# Altium footprint library PCB1.PcbLib: 42 footprints (part 2 of 3)
Each footprint in its own frame and in the unit in brackets; x right, y up, seen from the top. Pads: shape width x height; smd on the part's side, far side on the other; paste and mask are expansions set on the pad; w line width, h text height; cw(c..) or ccw(c..) is an arc to the next point about the centre after c.
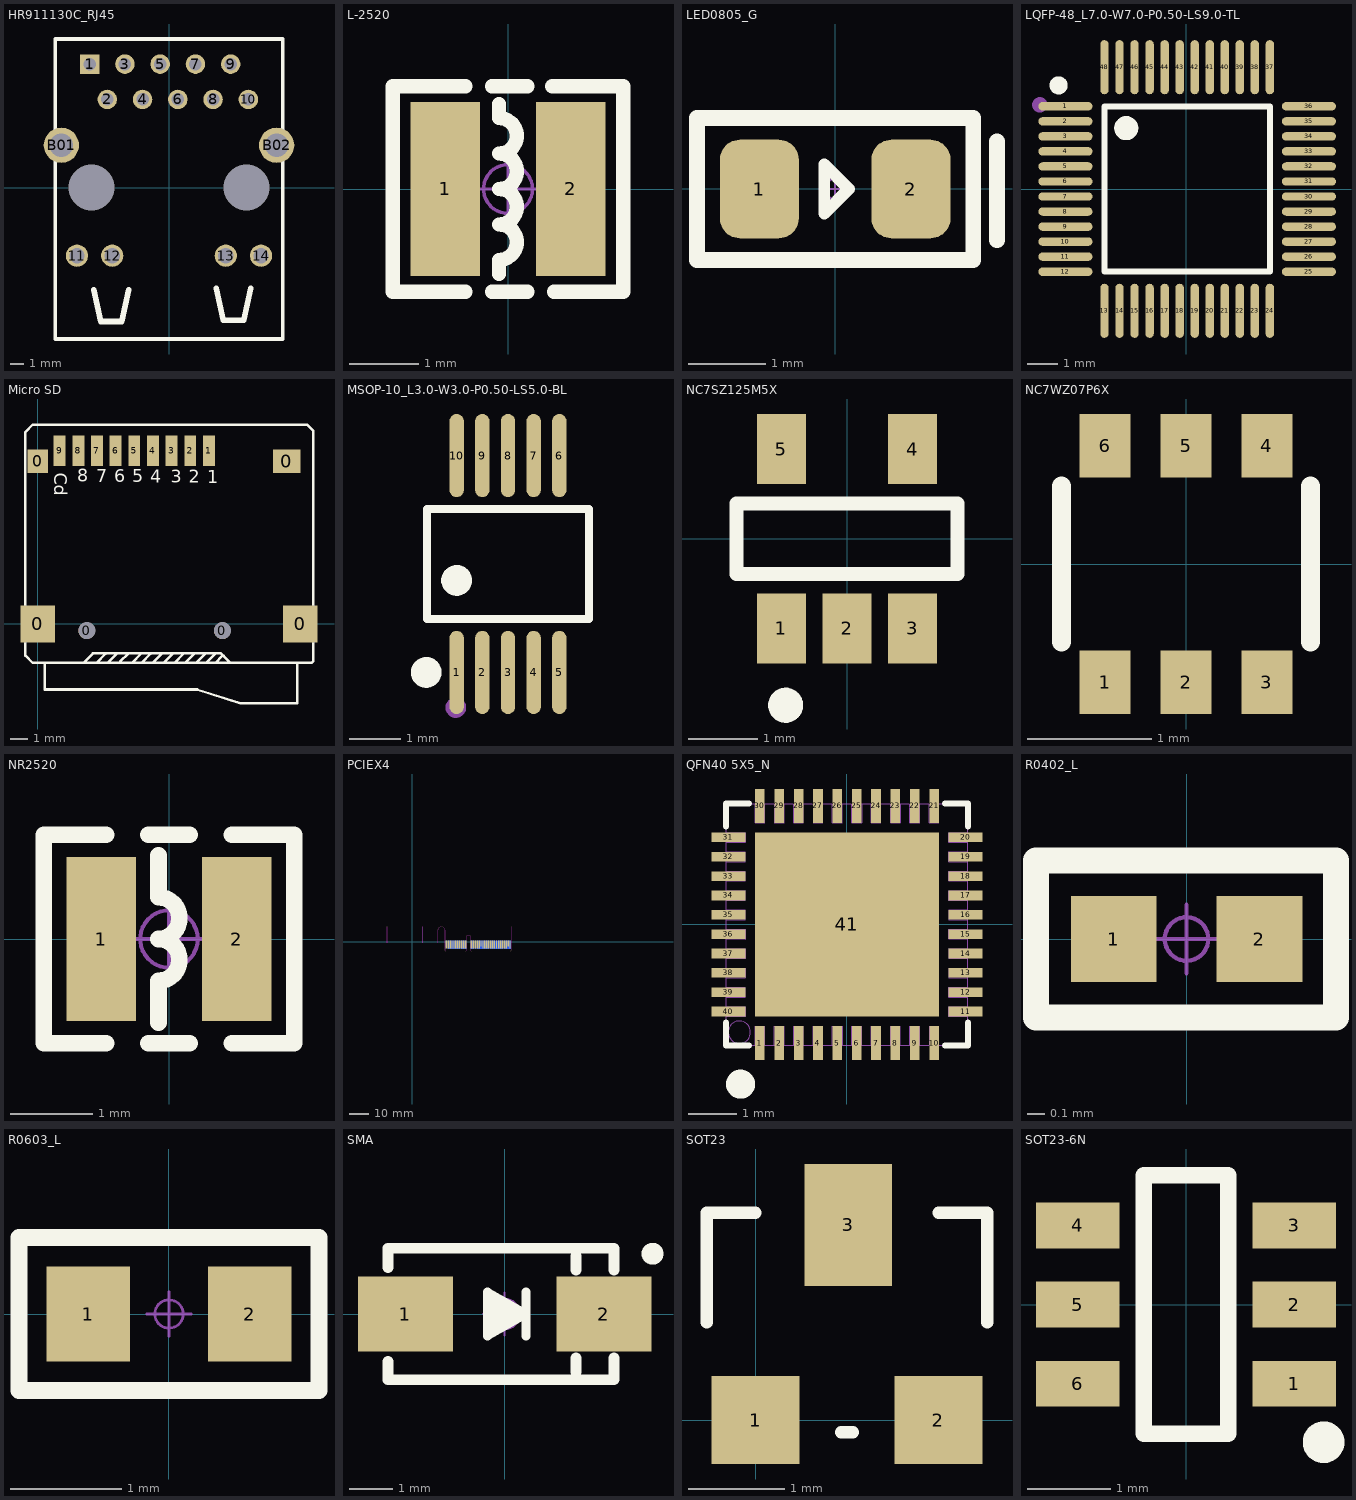
[diagram p1: the footprints below, top view; thin cyan lines are the x and y axes]

## HR911130C_RJ45 [mm]
pads (18):
  rect 1.4x1.4 hole 0.9: 1(-5.715,8.89)
  round 1.4 hole 0.9: 2(-4.445,6.35) 3(-3.175,8.89) 4(-1.905,6.35) 5(-0.635,8.89) 6(0.635,6.35) 7(1.905,8.89) 8(3.175,6.35) 9(4.445,8.89) 10(5.715,6.35)
  round 1.6 hole 1.1: 11(-6.625,-4.9) 12(-4.09,-4.9) 13(4.09,-4.9) 14(6.625,-4.9)
  round 2.54 hole 1.7: B01(-7.75,3.05) B02(7.75,3.05)
  round 0 hole 3.3 unplated: BO3(-5.57,0) BO4(5.57,0)
Top Overlay:
  lines w0.254: -8.2,-10.9 -8.2,10.7 8.2,10.7 8.2,-10.9 -8.2,-10.9
  lines w0.4: -5.404,-7.338 -4.904,-9.638 -3.404,-9.638 -2.904,-7.338 ; 3.396,-7.238 3.896,-9.538 5.396,-9.538 5.896,-7.238

## L-2520 [mm]
pads (2):
  rect 1x2.5 smd: 1(-0.9,0) 2(0.9,0)
Top Overlay:
  lines w0.203: -0.61,-1.473 -1.651,-1.473 -1.651,1.473 -0.61,1.473 ; -0.229,-1.473 0.279,-1.473 ; -0.229,1.473 0.279,1.473 ; -0.127,-1.219 -0.127,-1.016 ccw(c-0.127,-0.762) -0.127,-0.508 ccw(c-0.127,-0.254) -0.127,0 ccw(c-0.127,0.254) -0.127,0.508 ccw(c-0.127,0.762) -0.127,1.016 -0.127,1.219 ; 0.635,1.473 1.651,1.473 1.651,-1.473 0.66,-1.473
Mechanical 15:
  circle w0.05: c0,0 r0.35
  lines w0.05: -0.5,0 0.5,0 ; 0,-0.5 0,0.5

## LED0805_G [mil] "绿色0805LED            联系卖家 免费查找封装"
pads (2):
  rrect50% 40x50 smd: 1(-38.4,0) 2(38.4,0)
Top Overlay:
  lines w6: -5.5,-12.5 -5.5,12.5 7,0 -5.5,-12.5
  lines w8: 82,-26 82,24 ; -70,-36 70,-36 70,36 -70,36 -70,-36
Mechanical 15:
  circle w1: c0,0 r5
  lines w1: -7.87,0 7.87,0 ; 0,-7.87 0,7.87
3D body "LED 0805玻璃罩.STEP": height 31.69, standoff 12.01, extent -29.53,-24.6 29.53,24.6
3D body "LED_0805-G.STEP": height 26.34, standoff -0.04, extent -39.37,-24.65 39.37,24.64

## LQFP-48_L7.0-W7.0-P0.50-LS9.0-TL [mm]
pads (48):
  oval 1.8x0.28 smd paste+0 mask+0.051: 1(-4.012,2.75) 2(-4.012,2.25) 3(-4.012,1.75) 4(-4.012,1.25) 5(-4.012,0.75) 6(-4.012,0.25) 7(-4.012,-0.25) 8(-4.012,-0.75) 9(-4.012,-1.25) 10(-4.012,-1.75) 11(-4.012,-2.25) 12(-4.012,-2.75) 25(4.088,-2.75) 26(4.088,-2.25) 27(4.088,-1.75) 28(4.088,-1.25) 29(4.088,-0.75) 30(4.088,-0.25) 31(4.088,0.25) 32(4.088,0.75) 33(4.088,1.25) 34(4.088,1.75) 35(4.088,2.25) 36(4.088,2.75)
  oval 0.28x1.8 smd paste+0 mask+0.051: 13(-2.712,-4.05) 14(-2.211,-4.05) 15(-1.712,-4.05) 16(-1.211,-4.05) 17(-0.712,-4.05) 18(-0.211,-4.05) 19(0.288,-4.05) 20(0.789,-4.05) 21(1.288,-4.05) 22(1.789,-4.05) 23(2.288,-4.05) 24(2.789,-4.05) 37(2.789,4.05) 38(2.288,4.05) 39(1.789,4.05) 40(1.288,4.05) 41(0.789,4.05) 42(0.288,4.05) 43(-0.211,4.05) 44(-0.712,4.05) 45(-1.211,4.05) 46(-1.712,4.05) 47(-2.211,4.05) 48(-2.712,4.05)
Top Overlay:
  lines w0.2: -2.712,-2.75 2.788,-2.75 2.788,2.75 -2.712,2.75 -2.712,-2.75
  lines w0.3: -4.087,3.447 cw(c-4.237,3.448) -4.087,3.449
  lines w0.4: -1.788,2.022 cw(c-1.988,2.023) -1.788,2.024
Mechanical 15:
  circle w0.254: c-4.861,2.8 r0.127

## Micro SD [mm]
pads (15):
  rect 2.032x2.2 smd: 0(0,0) 0(15.5,0)
  rect 1.2x1.4 smd: 0(0,9.6)
  round 1 hole 1 unplated: 0(2.9,-0.4) 0(10.9,-0.4)
  rect 1.6x1.4 smd: 0(14.7,9.6)
  rect 0.7x1.8 smd: 1(10.1,10.227) 2(9,10.227) 3(7.9,10.227) 4(6.8,10.227) 5(5.7,10.227) 6(4.6,10.227) 7(3.5,10.227) 8(2.4,10.227) 9(1.3,10.227)
Top Overlay:
  lines w0.152: 0.423,-2.295 0.423,-3.87 9.414,-3.87 ; 3.471,-2.295 4.004,-1.762 4.004,-1.736 ; 4.131,-2.295 4.639,-1.787 4.639,-1.736 ; 4.868,-2.295 4.868,-2.219 5.35,-1.736 ; 5.553,-2.295 6.112,-1.736 6.138,-1.736 ; 6.138,-2.295 6.671,-1.762 6.671,-1.736 ; 6.773,-2.295 7.331,-1.736 7.433,-1.736 ; 7.433,-2.295 7.992,-1.736 8.017,-1.736 ; 8.068,-2.295 8.601,-1.762 8.601,-1.736 ; 8.703,-2.295 9.262,-1.736 9.389,-1.736 ; 9.338,-2.295 9.897,-1.736 9.922,-1.736 ; 9.389,-3.87 11.954,-4.683 15.307,-4.683 15.307,-2.321 ; 9.922,-2.295 10.481,-1.736 ; 10.481,-2.295 10.887,-1.889 10.964,-1.889 ; -0.289,-2.295 2.709,-2.295 3.267,-1.736 10.811,-1.736 11.37,-2.295 16.171,-2.295 ; -0.289,-2.295 16.171,-2.295 ; -0.289,-2.295 -0.72,-1.863 -0.72,11.319 -0.289,11.751 15.891,11.751 16.272,11.37 16.272,-2.194 16.171,-2.295
  text "1" at 9.998,8.297 h0.76
  text "2" at 8.906,8.322 h0.76
  text "3" at 7.839,8.322 h0.76
  text "4" at 6.646,8.322 h0.76
  text "5" at 5.579,8.347 h0.76
  text "6" at 4.512,8.347 h0.76
  text "7" at 3.445,8.347 h0.76
  text "8" at 2.328,8.373 h0.76
  text "Cd" at 0.981,8.932 h0.76
3D body "sdcard.STEP": height 1.8, standoff -0.7, extent -0.272,-4.625 16.002,10.569

## MSOP-10_L3.0-W3.0-P0.50-LS5.0-BL [mm]
pads (10):
  oval 0.28x1.62 smd paste+0 mask+0.051: 1(456.035,-344.857) 2(456.535,-344.857) 3(457.035,-344.857) 4(457.535,-344.857) 5(458.035,-344.857) 6(458.035,-340.637) 7(457.535,-340.637) 8(457.035,-340.637) 9(456.535,-340.637) 10(456.035,-340.637)
Top Overlay:
  circle w0.3: c456.035,-343.066 r0.15
  circle w0.3: c455.443,-344.857 r0.15
  lines w0.152: 455.459,-343.819 455.459,-341.676 458.611,-341.676 458.611,-343.819 455.459,-343.819
Mechanical 15:
  circle w0.2: c456.019,-345.541 r0.1

## NC7SZ125M5X [mil]
pads (5):
  rect 28x40 smd: 1(-37.4,-51.18) 2(0,-51.18) 3(37.4,-51.18) 4(37.4,51.18) 5(-37.4,51.18)
Top Overlay:
  circle w10: c-35,-95 r5
  lines w8: -63,-20 63,-20 63,20 -63,20 -63,-20

## NC7WZ07P6X [mil]
pads (6):
  rect 16x20 smd: 1(-25.59,-37.4) 2(0,-37.4) 3(25.59,-37.4) 4(25.59,37.4) 5(0,37.4) 6(-25.59,37.4)
Top Overlay:
  lines w6: -39.37,-24.61 -39.37,24.61 ; 39.37,-24.61 39.37,24.61

## NR2520 [mm] "2.5mm*2.0mm*1.0mm(长*宽*高）"
pads (2):
  rect 0.85x2 smd: 1(-0.825,0) 2(0.825,0)
Top Overlay:
  lines w0.203: -0.762,-1.27 -1.524,-1.27 -1.524,1.27 -0.762,1.27 ; -0.254,-1.27 0.254,-1.27 ; -0.254,1.27 0.254,1.27 ; -0.127,-1.016 -0.127,-0.508 ccw(c-0.127,-0.254) -0.127,0 ccw(c-0.127,0.254) -0.127,0.508 -0.127,1.016 ; 0.762,-1.27 1.524,-1.27 1.524,1.27 0.762,1.27
Mechanical 15:
  circle w0.05: c0,0 r0.35
  lines w0.05: -0.5,0 0.5,0 ; 0,-0.5 0,0.5
3D body "NR2520.STEP": height 1.12, standoff 0.02, extent -1.25,-1 1.25,1

## PCIEX4 [mm]
pads (64):
  rect 0.7x3.2 smd far side: A1(17.678,-0.897)
  rect 0.7x4.2 smd far side: A2(18.678,-1.397) A3(19.678,-1.397) A4(20.678,-1.397) A5(21.678,-1.397) A6(22.678,-1.397) A7(23.678,-1.397) A8(24.678,-1.397) A9(25.678,-1.397) A10(26.678,-1.397) A11(27.678,-1.397) A12(30.678,-1.397) A13(31.678,-1.397) A14(32.678,-1.397) A15(33.678,-1.397) A16(34.678,-1.397) A17(35.678,-1.397) A18(36.678,-1.397) A19(37.678,-1.397) A20(38.678,-1.397) A21(39.678,-1.397) A22(40.678,-1.397) A23(41.678,-1.397) A24(42.678,-1.397) A25(43.678,-1.397) A26(44.678,-1.397) A27(45.678,-1.397) A28(46.678,-1.397) A29(47.678,-1.397) A30(48.678,-1.397) A31(49.678,-1.397) A32(50.678,-1.397)
  rect 0.7x4.2 smd: B1(17.678,-1.397) B2(18.678,-1.397) B3(19.678,-1.397) B4(20.678,-1.397) B5(21.678,-1.397) B6(22.678,-1.397) B7(23.678,-1.397) B8(24.678,-1.397) B9(25.678,-1.397) B10(26.678,-1.397) B11(27.678,-1.397) B12(30.678,-1.397) B13(31.678,-1.397) B14(32.678,-1.397) B15(33.678,-1.397) B16(34.678,-1.397) B18(36.678,-1.397) B19(37.678,-1.397) B20(38.678,-1.397) B21(39.678,-1.397) B22(40.678,-1.397) B23(41.678,-1.397) B24(42.678,-1.397) B25(43.678,-1.397) B26(44.678,-1.397) B27(45.678,-1.397) B28(46.678,-1.397) B29(47.678,-1.397) B30(48.678,-1.397) B32(50.678,-1.397)
  rect 0.7x3.2 smd: B17(35.678,-0.897) B31(49.678,-0.897)
Keep-Out Layer:
  drawing of 21 lines, arcs and shapes, not listed

## QFN40 5X5_N [mm]
pads (41):
  rect 0.2x0.7 smd mask+0.05: 1(-1.8,-2.45) 2(-1.4,-2.45) 3(-1,-2.45) 4(-0.6,-2.45) 5(-0.2,-2.45) 6(0.2,-2.45) 7(0.6,-2.45) 8(1,-2.45) 9(1.4,-2.45) 10(1.8,-2.45) 21(1.8,2.45) 22(1.4,2.45) 23(1,2.45) 24(0.6,2.45) 25(0.2,2.45) 26(-0.2,2.45) 27(-0.6,2.45) 28(-1,2.45) 29(-1.4,2.45) 30(-1.8,2.45)
  rect 0.7x0.2 smd mask+0.05: 11(2.45,-1.8) 12(2.45,-1.4) 13(2.45,-1) 14(2.45,-0.6) 15(2.45,-0.2) 16(2.45,0.2) 17(2.45,0.6) 18(2.45,1) 19(2.45,1.4) 20(2.45,1.8) 31(-2.45,1.8) 32(-2.45,1.4) 33(-2.45,1) 34(-2.45,0.6) 35(-2.45,0.2) 36(-2.45,-0.2) 37(-2.45,-0.6) 38(-2.45,-1) 39(-2.45,-1.4) 40(-2.45,-1.8)
  rect 3.8x3.8 smd mask+0.05: 41(0,0)
Top Overlay:
  circle w0.4: c-2.2,-3.3 r0.1
  lines w0.12: -2.5,-2.025 -2.5,-2.5 -2.025,-2.5 ; -2.5,2.025 -2.5,2.5 -2.025,2.5 ; 2.025,-2.5 2.5,-2.5 2.5,-2.025 ; 2.025,2.5 2.5,2.5 2.5,2.025
Mechanical 13:
  circle w0.01: c-2.225,-2.225 r0.23
  lines w0.01: -2.5,-1.9 -2.1,-1.9 -2.1,-1.7 -2.5,-1.7 ; -2.5,-1.5 -2.1,-1.5 -2.1,-1.3 -2.5,-1.3 ; -2.5,-1.1 -2.1,-1.1 -2.1,-0.9 -2.5,-0.9 ; -2.5,-0.7 -2.1,-0.7 -2.1,-0.5 -2.5,-0.5 ; -2.5,-0.3 -2.1,-0.3 -2.1,-0.1 -2.5,-0.1 ; -2.5,0.1 -2.1,0.1 -2.1,0.3 -2.5,0.3 ; -2.5,0.5 -2.1,0.5 -2.1,0.7 -2.5,0.7 ; -2.5,0.9 -2.1,0.9 -2.1,1.1 -2.5,1.1 ; -2.5,1.3 -2.1,1.3 -2.1,1.5 -2.5,1.5 ; -2.5,1.7 -2.1,1.7 -2.1,1.9 -2.5,1.9 ; -1.9,-2.5 -1.9,-2.1 -1.7,-2.1 -1.7,-2.5 ; -1.9,2.5 -1.9,2.1 -1.7,2.1 -1.7,2.5 ; -1.5,-2.5 -1.5,-2.1 -1.3,-2.1 -1.3,-2.5 ; -1.5,2.5 -1.5,2.1 -1.3,2.1 -1.3,2.5 ; -1.1,-2.5 -1.1,-2.1 -0.9,-2.1 -0.9,-2.5 ; -1.1,2.5 -1.1,2.1 -0.9,2.1 -0.9,2.5 ; -0.7,-2.5 -0.7,-2.1 -0.5,-2.1 -0.5,-2.5 ; -0.7,2.5 -0.7,2.1 -0.5,2.1 -0.5,2.5 ; -0.3,-2.5 -0.3,-2.1 -0.1,-2.1 -0.1,-2.5 ; -0.3,2.5 -0.3,2.1 -0.1,2.1 -0.1,2.5 ; 0.1,-2.5 0.1,-2.1 0.3,-2.1 0.3,-2.5 ; 0.1,2.5 0.1,2.1 0.3,2.1 0.3,2.5 ; 0.5,-2.5 0.5,-2.1 0.7,-2.1 0.7,-2.5 ; 0.5,2.5 0.5,2.1 0.7,2.1 0.7,2.5 ; 0.9,-2.5 0.9,-2.1 1.1,-2.1 1.1,-2.5 ; 0.9,2.5 0.9,2.1 1.1,2.1 1.1,2.5 ; 1.3,-2.5 1.3,-2.1 1.5,-2.1 1.5,-2.5 ; 1.3,2.5 1.3,2.1 1.5,2.1 1.5,2.5 ; 1.7,-2.5 1.7,-2.1 1.9,-2.1 1.9,-2.5 ; 1.7,2.5 1.7,2.1 1.9,2.1 1.9,2.5 ; 2.5,-1.9 2.1,-1.9 2.1,-1.7 2.5,-1.7 ; 2.5,-1.5 2.1,-1.5 2.1,-1.3 2.5,-1.3 ; 2.5,-1.1 2.1,-1.1 2.1,-0.9 2.5,-0.9 ; 2.5,-0.7 2.1,-0.7 2.1,-0.5 2.5,-0.5 ; 2.5,-0.3 2.1,-0.3 2.1,-0.1 2.5,-0.1 ; 2.5,0.1 2.1,0.1 2.1,0.3 2.5,0.3 ; 2.5,0.5 2.1,0.5 2.1,0.7 2.5,0.7 ; 2.5,0.9 2.1,0.9 2.1,1.1 2.5,1.1 ; 2.5,1.3 2.1,1.3 2.1,1.5 2.5,1.5 ; 2.5,1.7 2.1,1.7 2.1,1.9 2.5,1.9 ; -2.5,-2.5 -2.5,2.5 2.5,2.5 2.5,-2.5 -2.5,-2.5 ; -1.85,-1.85 1.85,-1.85 1.85,1.85 -1.85,1.85 -1.85,-1.85
  text "40" at -2.125,-1.95 h0.5
  text "31" at -2.125,1.6 h0.5
  text "30" at -1.65,2 h0.5
  text "21" at 1.95,2.05 h0.5
  text "20" at 2.45,1.575 h0.5
  text "11" at 2.45,-1.975 h0.5
  text "10" at 1.95,-2.45 h0.5
  text "1" at -1.65,-2.35 h0.5
  text "41" at 0.15,-0.225 h0.5
3D body: height 0.74, standoff 0.73, extent -2.05,-2.248 -1.551,-1.75
3D body: height 0.73, standoff 0.73, extent -2.5,-2.5 2.5,2.5

## R0402_L [mm] "1/16W贴片电阻"
pads (2):
  rect 0.5x0.5 smd: 1(-0.425,0) 2(0.425,0)
Top Overlay:
  lines w0.152: -0.878,-0.457 0.872,-0.457 0.872,0.457 -0.878,0.457 -0.878,-0.457
Mechanical 15:
  circle w0.025: c0,0 r0.127
  lines w0.025: -0.2,0 0.2,0 ; 0,-0.2 0,0.2
3D body "R0402.STEP": height 0.3, standoff 0, extent -0.5,-0.25 0.5,0.25

## R0603_L [mm] "1/10W贴片电阻"
pads (2):
  rect 0.75x0.85 smd: 1(-0.725,0) 2(0.725,0)
Top Overlay:
  lines w0.152: -1.346,-0.686 -1.346,0.686 1.346,0.686 1.346,-0.686 -1.346,-0.686
Mechanical 15:
  circle w0.025: c0,0 r0.127
  lines w0.025: -0.2,0 0.2,0 ; 0,-0.2 0,0.2
3D body "R0603-2.stp": height 0.4, standoff 0, extent -0.8,-0.4 0.8,0.4

## SMA [mm]
pads (2):
  rect 2.2x1.75 smd: 1(-2.3,0) 2(2.3,0)
Top Overlay:
  circle w0.254: c3.429,1.397 r0.127
  lines w0.203: 0.494,-0.508 0.494,0.508 ; -0.395,-0.508 -0.395,0.508 0.494,0 -0.395,-0.508
  lines w0.254: -2.7,-1.105 -2.7,-1.524 2.54,-1.524 2.54,-1.016 ; -2.7,1.08 -2.7,1.524 2.54,1.524 2.54,1.016 ; -0.33,0.305 0.305,0 -0.254,-0.305 -0.254,0.051 0.023,0 ; 1.651,-1.35 1.651,-1.016 ; 1.651,1.016 1.651,1.35
Mechanical 15:
  circle w0.05: c0,0 r0.35
  lines w0.05: -0.5,0 0.5,0 ; 0,-0.5 0,0.5

## SOT23 [mil]
pads (3):
  rect 36x36 smd: 1(0,0) 2(75,0)
  rect 36x50 smd: 3(38,80)
Top Overlay:
  lines w5: -20,40 -20,85 0,85 ; 35,-5 40,-5 ; 75,85 95,85 95,40

## SOT23-6N [mm]
pads (6):
  rect 1x0.55 smd: 1(1.3,-0.95) 2(1.3,0) 3(1.3,0.95) 4(-1.3,0.95) 5(-1.3,0) 6(-1.3,-0.95)
Top Overlay:
  circle w0.25: c1.651,-1.651 r0.125
  lines w0.2: -0.508,-1.55 0.508,-1.55 0.508,1.55 -0.508,1.55 -0.508,-1.55